# Altium footprint library CONN_10X_HEADER_2.54.PcbLib: 1 footprints
Each footprint in its own frame and in the unit in brackets; x right, y up, seen from the top. Pads: shape width x height; smd on the part's side, far side on the other; paste and mask are expansions set on the pad; w line width, h text height; cw(c..) or ccw(c..) is an arc to the next point about the centre after c.
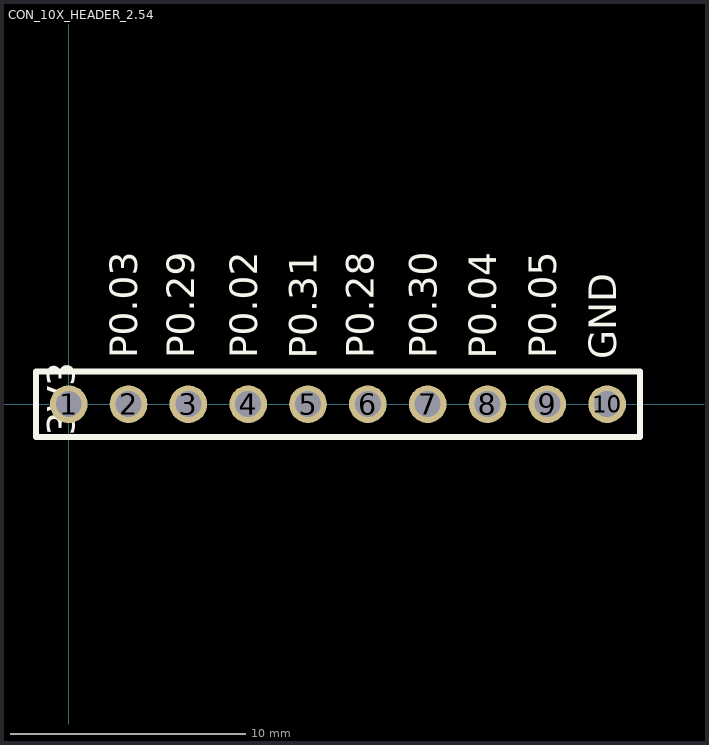
[diagram p0: the footprint, top view; thin cyan lines are the x and y axes]

## CON_10X_HEADER_2.54 [mm] "10 Pin Header"
pads (10):
  round 1.6 hole 1.1: 1(0,0) 2(2.54,0) 3(5.08,0) 4(7.62,0) 5(10.16,0) 6(12.7,0) 7(15.24,0) 8(17.78,0) 9(20.32,0) 10(22.86,0)
Top Overlay:
  lines w0.254: -1.397,-1.397 24.257,-1.397 24.257,1.397 -1.397,1.397 -1.397,-1.397
  text "3V3" at 0.635,-1.346 h2
  text "GND" at 23.622,1.908 h2
  text "P0.03" at 3.302,1.955 h2
  text "P0.29" at 5.715,1.958 h2
  text "P0.02" at 8.382,1.962 h2
  text "P0.31" at 10.922,1.936 h2
  text "P0.28" at 13.335,1.956 h2
  text "P0.30" at 16.002,1.961 h2
  text "P0.04" at 18.542,1.937 h2
  text "P0.05" at 21.082,1.943 h2
Mechanical 1:
  text ".designator" at 8.714,0 h0.5
3D body "CON_10X_HEADER_2.54.step": height 8.19, standoff -3.24, extent -1.27,-1.208 24.13,1.206